# Altium footprint library Capacitor_THT.PcbLib: 378 footprints (part 17 of 24)
Each footprint in its own frame and in the unit in brackets; x right, y up, seen from the top. Pads: shape width x height; smd on the part's side, far side on the other; paste and mask are expansions set on the pad; w line width, h text height; cw(c..) or ccw(c..) is an arc to the next point about the centre after c.
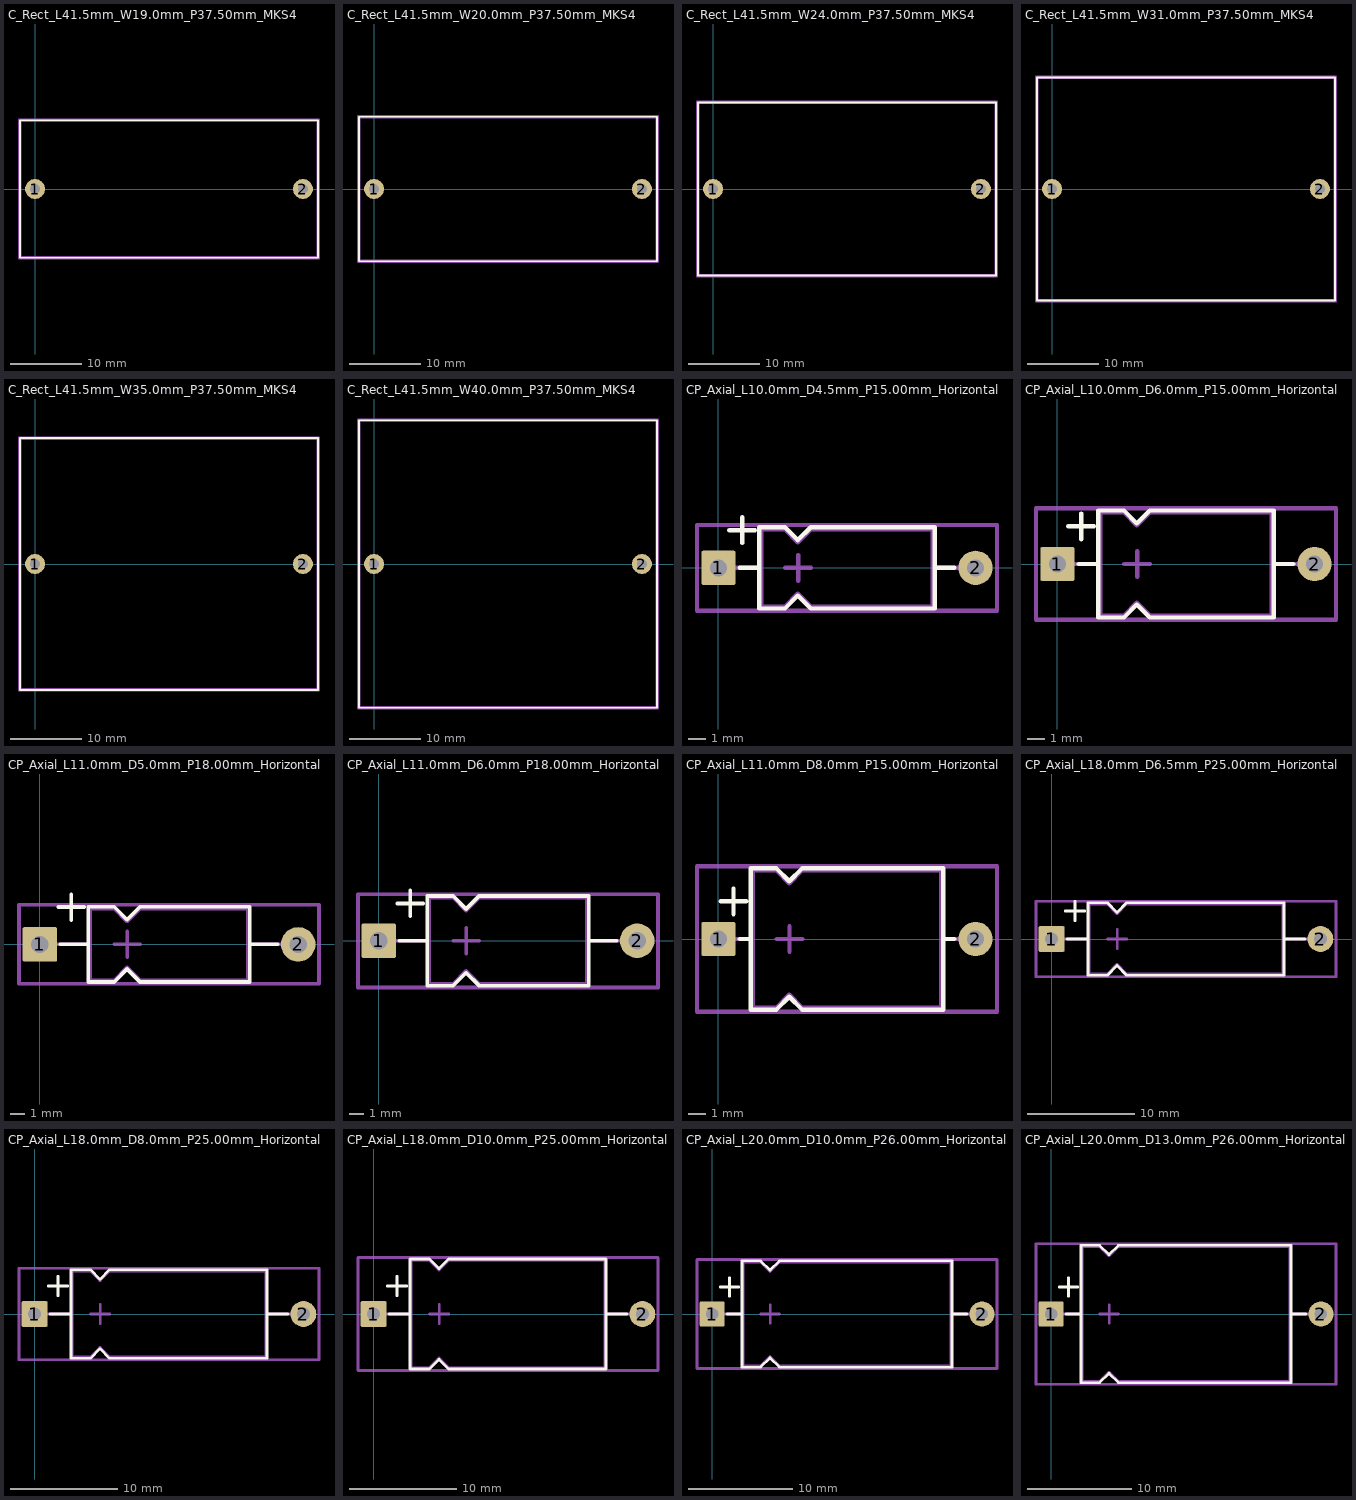
[diagram p16: the footprints below, top view; thin cyan lines are the x and y axes]

## C_Rect_L41.5mm_W19.0mm_P37.50mm_MKS4 [mm] "C_Rect_L41.5mm_W19.0mm_P37.50mm_MKS4"
pads (2):
  round 2.8 hole 1.4: 1(0,0) 2(37.5,0)
F.SilkS:
  lines w0.254: -2.12,-9.62 -2.12,9.62 39.62,9.62 39.62,-9.62 -2.12,-9.62
Top Component Center:
  lines w0.127: -0.127,0 0.127,0 ; 0,-0.127 0,0.127
Top Assembly:
  lines w0.254: -2,-9.5 -2,9.5 39.5,9.5 39.5,-9.5 -2,-9.5
Top Courtyard:
  lines w0.254: -2.25,-9.75 -2.25,9.75 39.75,9.75 39.75,-9.75 -2.25,-9.75
Top Designator:
  text ".Designator" at 13.965,-0.345 h1.52
3D body "C_Rect_L41.5mm_W19.0mm_P37.50mm_MKS4.step": height 44, standoff -1.9, extent -2,-9.5 39.5,9.5

## C_Rect_L41.5mm_W20.0mm_P37.50mm_MKS4 [mm] "C_Rect_L41.5mm_W20.0mm_P37.50mm_MKS4"
pads (2):
  round 2.8 hole 1.4: 1(0,0) 2(37.5,0)
F.SilkS:
  lines w0.254: -2.12,-10.12 -2.12,10.12 39.62,10.12 39.62,-10.12 -2.12,-10.12
Top Component Center:
  lines w0.127: -0.127,0 0.127,0 ; 0,-0.127 0,0.127
Top Assembly:
  lines w0.254: -2,-10 -2,10 39.5,10 39.5,-10 -2,-10
Top Courtyard:
  lines w0.254: -2.25,-10.25 -2.25,10.25 39.75,10.25 39.75,-10.25 -2.25,-10.25
Top Designator:
  text ".Designator" at 14.346,-0.345 h1.52
3D body "C_Rect_L41.5mm_W20.0mm_P37.50mm_MKS4.step": height 44, standoff -1.9, extent -2,-10 39.5,10

## C_Rect_L41.5mm_W24.0mm_P37.50mm_MKS4 [mm] "C_Rect_L41.5mm_W24.0mm_P37.50mm_MKS4"
pads (2):
  round 2.8 hole 1.4: 1(0,0) 2(37.5,0)
F.SilkS:
  lines w0.254: -2.12,-12.12 39.62,-12.12 39.62,12.12 -2.12,12.12 -2.12,-12.12
Top Component Center:
  lines w0.127: -0.127,0 0.127,0 ; 0,-0.127 0,0.127
Top Assembly:
  lines w0.254: -2,-12 39.5,-12 39.5,12 -2,12 -2,-12
Top Courtyard:
  lines w0.254: -2.25,-12.25 39.75,-12.25 39.75,12.25 -2.25,12.25 -2.25,-12.25
Top Designator:
  text ".Designator" at 13.584,-0.472 h1.52
3D body "C_Rect_L41.5mm_W24.0mm_P37.50mm_MKS4.step": height 44, standoff -1.9, extent -2,-12 39.5,12

## C_Rect_L41.5mm_W31.0mm_P37.50mm_MKS4 [mm] "C_Rect_L41.5mm_W31.0mm_P37.50mm_MKS4"
pads (2):
  round 2.8 hole 1.4: 1(0,0) 2(37.5,0)
F.SilkS:
  lines w0.254: -2.12,-15.62 -2.12,15.62 39.62,15.62 39.62,-15.62 -2.12,-15.62
Top Component Center:
  lines w0.127: -0.127,0 0.127,0 ; 0,-0.127 0,0.127
Top Assembly:
  lines w0.254: -2,-15.5 -2,15.5 39.5,15.5 39.5,-15.5 -2,-15.5
Top Courtyard:
  lines w0.254: -2.25,-15.75 -2.25,15.75 39.75,15.75 39.75,-15.75 -2.25,-15.75
Top Designator:
  text ".Designator" at 14.219,-0.472 h1.52
3D body "C_Rect_L41.5mm_W31.0mm_P37.50mm_MKS4.step": height 44, standoff -1.9, extent -2,-15.5 39.5,15.5

## C_Rect_L41.5mm_W35.0mm_P37.50mm_MKS4 [mm] "C_Rect_L41.5mm_W35.0mm_P37.50mm_MKS4"
pads (2):
  round 2.8 hole 1.4: 1(0,0) 2(37.5,0)
F.SilkS:
  lines w0.254: -2.12,-17.62 -2.12,17.62 39.62,17.62 39.62,-17.62 -2.12,-17.62
Top Component Center:
  lines w0.127: -0.127,0 0.127,0 ; 0,-0.127 0,0.127
Top Assembly:
  lines w0.254: -2,-17.5 -2,17.5 39.5,17.5 39.5,-17.5 -2,-17.5
Top Courtyard:
  lines w0.254: -2.25,-17.75 -2.25,17.75 39.75,17.75 39.75,-17.75 -2.25,-17.75
Top Designator:
  text ".Designator" at 13.838,-0.345 h1.52
3D body "C_Rect_L41.5mm_W35.0mm_P37.50mm_MKS4.step": height 44, standoff -1.9, extent -2,-17.5 39.5,17.5

## C_Rect_L41.5mm_W40.0mm_P37.50mm_MKS4 [mm] "C_Rect_L41.5mm_W40.0mm_P37.50mm_MKS4"
pads (2):
  round 2.8 hole 1.4: 1(0,0) 2(37.5,0)
F.SilkS:
  lines w0.254: -2.12,-20.12 39.62,-20.12 39.62,20.12 -2.12,20.12 -2.12,-20.12
Top Component Center:
  lines w0.127: -0.127,0 0.127,0 ; 0,-0.127 0,0.127
Top Assembly:
  lines w0.254: -2,-20 39.5,-20 39.5,20 -2,20 -2,-20
Top Courtyard:
  lines w0.254: -2.25,-20.25 39.75,-20.25 39.75,20.25 -2.25,20.25 -2.25,-20.25
Top Designator:
  text ".Designator" at 13.838,-0.472 h1.52
3D body "C_Rect_L41.5mm_W40.0mm_P37.50mm_MKS4.step": height 44, standoff -1.9, extent -2,-20 39.5,20

## CP_Axial_L10.0mm_D4.5mm_P15.00mm_Horizontal [mm] "CP_Axial_L10.0mm_D4.5mm_P15.00mm_Horizontal"
pads (2):
  rrect12% 2x2 hole 1: 1(0,0)
  round 2 hole 1: 2(15,0)
F.SilkS:
  lines w0.254: 0.63,2.2 2.13,2.2 ; 1.24,0 2.38,0 ; 1.38,1.45 1.38,2.95 ; 12.62,0 13.76,0 ; 2.38,-2.37 3.88,-2.37 4.63,-1.62 5.38,-2.37 12.62,-2.37 12.62,2.37 5.38,2.37 4.63,1.62 3.88,2.37 2.38,2.37 2.38,-2.37
Top Component Center:
  lines w0.127: -0.127,0 0.127,0 ; 0,-0.127 0,0.127
Top Assembly:
  lines w0.254: 0,0 2.5,0 ; 3.9,0 5.4,0 ; 4.65,-0.75 4.65,0.75 ; 12.5,0 15,0 ; 2.5,-2.25 3.88,-2.25 4.63,-1.5 5.38,-2.25 12.5,-2.25 12.5,2.25 5.38,2.25 4.63,1.5 3.88,2.25 2.5,2.25 2.5,-2.25
Top Courtyard:
  lines w0.254: -1.25,-2.5 16.25,-2.5 16.25,2.5 -1.25,2.5 -1.25,-2.5
Top Designator:
  text ".Designator" at 5.202,-0.345 h1.52
3D body "CP_Axial_L10.0mm_D4.5mm_P15.00mm_Horizontal.step": height 4.51, standoff -2, extent -0.347,-2.248 15.347,2.249

## CP_Axial_L10.0mm_D6.0mm_P15.00mm_Horizontal [mm] "CP_Axial_L10.0mm_D6.0mm_P15.00mm_Horizontal"
pads (2):
  rrect12% 2x2 hole 1: 1(0,0)
  round 2 hole 1: 2(15,0)
F.SilkS:
  lines w0.254: 0.63,2.2 2.13,2.2 ; 1.24,0 2.38,0 ; 1.38,1.45 1.38,2.95 ; 12.62,0 13.76,0 ; 2.38,-3.12 2.38,3.12 3.88,3.12 4.63,2.37 5.38,3.12 12.62,3.12 12.62,-3.12 5.38,-3.12 4.63,-2.37 3.88,-3.12 2.38,-3.12
Top Component Center:
  lines w0.127: -0.127,0 0.127,0 ; 0,-0.127 0,0.127
Top Assembly:
  lines w0.254: 0,0 2.5,0 ; 3.9,0 5.4,0 ; 4.65,-0.75 4.65,0.75 ; 12.5,0 15,0 ; 2.5,-3 2.5,3 3.88,3 4.63,2.25 5.38,3 12.5,3 12.5,-3 5.38,-3 4.63,-2.25 3.88,-3 2.5,-3
Top Courtyard:
  lines w0.254: -1.25,-3.25 -1.25,3.25 16.25,3.25 16.25,-3.25 -1.25,-3.25
Top Designator:
  text ".Designator" at 5.329,-0.472 h1.52
3D body "CP_Axial_L10.0mm_D6.0mm_P15.00mm_Horizontal.step": height 6.01, standoff -2, extent -0.347,-3 15.347,2.997

## CP_Axial_L11.0mm_D5.0mm_P18.00mm_Horizontal [mm] "CP_Axial_L11.0mm_D5.0mm_P18.00mm_Horizontal"
pads (2):
  rrect10% 2.4x2.4 hole 1.2: 1(0,0)
  round 2.4 hole 1.2: 2(18,0)
F.SilkS:
  lines w0.254: 1.28,2.6 3.08,2.6 ; 1.44,0 3.38,0 ; 2.18,1.7 2.18,3.5 ; 14.62,0 16.56,0 ; 3.38,-2.62 3.38,2.62 5.18,2.62 6.08,1.72 6.98,2.62 14.62,2.62 14.62,-2.62 6.98,-2.62 6.08,-1.72 5.18,-2.62 3.38,-2.62
Top Component Center:
  lines w0.127: -0.127,0 0.127,0 ; 0,-0.127 0,0.127
Top Assembly:
  lines w0.254: 0,0 3.5,0 ; 5.2,0 7,0 ; 6.1,-0.9 6.1,0.9 ; 14.5,0 18,0 ; 3.5,-2.5 3.5,2.5 5.18,2.5 6.08,1.6 6.98,2.5 14.5,2.5 14.5,-2.5 6.98,-2.5 6.08,-1.6 5.18,-2.5 3.5,-2.5
Top Courtyard:
  lines w0.254: -1.45,-2.75 -1.45,2.75 19.45,2.75 19.45,-2.75 -1.45,-2.75
Top Designator:
  text ".Designator" at 7.107,-0.345 h1.52
3D body "CP_Axial_L11.0mm_D5.0mm_P18.00mm_Horizontal.step": height 5.01, standoff -2, extent -0.447,-2.5 18.447,2.5

## CP_Axial_L11.0mm_D6.0mm_P18.00mm_Horizontal [mm] "CP_Axial_L11.0mm_D6.0mm_P18.00mm_Horizontal"
pads (2):
  rrect10% 2.4x2.4 hole 1.2: 1(0,0)
  round 2.4 hole 1.2: 2(18,0)
F.SilkS:
  lines w0.254: 1.28,2.6 3.08,2.6 ; 1.44,0 3.38,0 ; 2.18,1.7 2.18,3.5 ; 14.62,0 16.56,0 ; 3.38,-3.12 3.38,3.12 5.18,3.12 6.08,2.22 6.98,3.12 14.62,3.12 14.62,-3.12 6.98,-3.12 6.08,-2.22 5.18,-3.12 3.38,-3.12
Top Component Center:
  lines w0.127: -0.127,0 0.127,0 ; 0,-0.127 0,0.127
Top Assembly:
  lines w0.254: 0,0 3.5,0 ; 5.2,0 7,0 ; 6.1,-0.9 6.1,0.9 ; 14.5,0 18,0 ; 3.5,-3 3.5,3 5.18,3 6.08,2.1 6.98,3 14.5,3 14.5,-3 6.98,-3 6.08,-2.1 5.18,-3 3.5,-3
Top Courtyard:
  lines w0.254: -1.45,-3.25 -1.45,3.25 19.45,3.25 19.45,-3.25 -1.45,-3.25
Top Designator:
  text ".Designator" at 6.853,-0.345 h1.52
3D body "CP_Axial_L11.0mm_D6.0mm_P18.00mm_Horizontal.step": height 6.01, standoff -2, extent -0.447,-3 18.447,2.997

## CP_Axial_L11.0mm_D8.0mm_P15.00mm_Horizontal [mm] "CP_Axial_L11.0mm_D8.0mm_P15.00mm_Horizontal"
pads (2):
  rrect12% 2x2 hole 1: 1(0,0)
  round 2 hole 1: 2(15,0)
F.SilkS:
  lines w0.254: 0.13,2.2 1.63,2.2 ; 0.88,1.45 0.88,2.95 ; 1.24,0 1.88,0 ; 13.12,0 13.76,0 ; 1.88,-4.12 3.38,-4.12 4.13,-3.37 4.88,-4.12 13.12,-4.12 13.12,4.12 4.88,4.12 4.13,3.37 3.38,4.12 1.88,4.12 1.88,-4.12
Top Component Center:
  lines w0.127: -0.127,0 0.127,0 ; 0,-0.127 0,0.127
Top Assembly:
  lines w0.254: 0,0 2,0 ; 3.4,0 4.9,0 ; 4.15,-0.75 4.15,0.75 ; 13,0 15,0 ; 2,-4 3.38,-4 4.13,-3.25 4.88,-4 13,-4 13,4 4.88,4 4.13,3.25 3.38,4 2,4 2,-4
Top Courtyard:
  lines w0.254: -1.25,-4.25 16.25,-4.25 16.25,4.25 -1.25,4.25 -1.25,-4.25
Top Designator:
  text ".Designator" at 4.821,-0.345 h1.52
3D body "CP_Axial_L11.0mm_D8.0mm_P15.00mm_Horizontal.step": height 8.01, standoff -2, extent -0.347,-3.996 15.347,3.999

## CP_Axial_L18.0mm_D6.5mm_P25.00mm_Horizontal [mm] "CP_Axial_L18.0mm_D6.5mm_P25.00mm_Horizontal"
pads (2):
  rrect10% 2.4x2.4 hole 1.2: 1(0,0)
  round 2.4 hole 1.2: 2(25,0)
F.SilkS:
  lines w0.254: 1.28,2.6 3.08,2.6 ; 1.44,0 3.38,0 ; 2.18,1.7 2.18,3.5 ; 21.62,0 23.56,0 ; 3.38,-3.37 3.38,3.37 5.18,3.37 6.08,2.47 6.98,3.37 21.62,3.37 21.62,-3.37 6.98,-3.37 6.08,-2.47 5.18,-3.37 3.38,-3.37
Top Component Center:
  lines w0.127: -0.127,0 0.127,0 ; 0,-0.127 0,0.127
Top Assembly:
  lines w0.254: 0,0 3.5,0 ; 5.2,0 7,0 ; 6.1,-0.9 6.1,0.9 ; 21.5,0 25,0 ; 3.5,-3.25 3.5,3.25 5.18,3.25 6.08,2.35 6.98,3.25 21.5,3.25 21.5,-3.25 6.98,-3.25 6.08,-2.35 5.18,-3.25 3.5,-3.25
Top Courtyard:
  lines w0.254: -1.45,-3.5 -1.45,3.5 26.45,3.5 26.45,-3.5 -1.45,-3.5
Top Designator:
  text ".Designator" at 8.631,-0.472 h1.52
3D body "CP_Axial_L18.0mm_D6.5mm_P25.00mm_Horizontal.step": height 6.51, standoff -2, extent -0.447,-3.243 25.447,3.25

## CP_Axial_L18.0mm_D8.0mm_P25.00mm_Horizontal [mm] "CP_Axial_L18.0mm_D8.0mm_P25.00mm_Horizontal"
pads (2):
  rrect10% 2.4x2.4 hole 1.2: 1(0,0)
  round 2.4 hole 1.2: 2(25,0)
F.SilkS:
  lines w0.254: 1.28,2.6 3.08,2.6 ; 1.44,0 3.38,0 ; 2.18,1.7 2.18,3.5 ; 21.62,0 23.56,0 ; 3.38,-4.12 3.38,4.12 5.18,4.12 6.08,3.22 6.98,4.12 21.62,4.12 21.62,-4.12 6.98,-4.12 6.08,-3.22 5.18,-4.12 3.38,-4.12
Top Component Center:
  lines w0.127: -0.127,0 0.127,0 ; 0,-0.127 0,0.127
Top Assembly:
  lines w0.254: 0,0 3.5,0 ; 5.2,0 7,0 ; 6.1,-0.9 6.1,0.9 ; 21.5,0 25,0 ; 3.5,-4 3.5,4 5.18,4 6.08,3.1 6.98,4 21.5,4 21.5,-4 6.98,-4 6.08,-3.1 5.18,-4 3.5,-4
Top Courtyard:
  lines w0.254: -1.45,-4.25 -1.45,4.25 26.45,4.25 26.45,-4.25 -1.45,-4.25
Top Designator:
  text ".Designator" at 9.393,-0.345 h1.52
3D body "CP_Axial_L18.0mm_D8.0mm_P25.00mm_Horizontal.step": height 8.01, standoff -2, extent -0.447,-3.997 25.447,3.996

## CP_Axial_L18.0mm_D10.0mm_P25.00mm_Horizontal [mm] "CP_Axial_L18.0mm_D10.0mm_P25.00mm_Horizontal"
pads (2):
  rrect10% 2.4x2.4 hole 1.2: 1(0,0)
  round 2.4 hole 1.2: 2(25,0)
F.SilkS:
  lines w0.254: 1.28,2.6 3.08,2.6 ; 1.44,0 3.38,0 ; 2.18,1.7 2.18,3.5 ; 21.62,0 23.56,0 ; 3.38,-5.12 5.18,-5.12 6.08,-4.22 6.98,-5.12 21.62,-5.12 21.62,5.12 6.98,5.12 6.08,4.22 5.18,5.12 3.38,5.12 3.38,-5.12
Top Component Center:
  lines w0.127: -0.127,0 0.127,0 ; 0,-0.127 0,0.127
Top Assembly:
  lines w0.254: 0,0 3.5,0 ; 5.2,0 7,0 ; 6.1,-0.9 6.1,0.9 ; 21.5,0 25,0 ; 3.5,-5 5.18,-5 6.08,-4.1 6.98,-5 21.5,-5 21.5,5 6.98,5 6.08,4.1 5.18,5 3.5,5 3.5,-5
Top Courtyard:
  lines w0.254: -1.45,-5.25 26.45,-5.25 26.45,5.25 -1.45,5.25 -1.45,-5.25
Top Designator:
  text ".Designator" at 9.266,-0.345 h1.52
3D body "CP_Axial_L18.0mm_D10.0mm_P25.00mm_Horizontal.step": height 10.01, standoff -2, extent -0.447,-4.994 25.447,4.995

## CP_Axial_L20.0mm_D10.0mm_P26.00mm_Horizontal [mm] "CP_Axial_L20.0mm_D10.0mm_P26.00mm_Horizontal"
pads (2):
  rrect10% 2.4x2.4 hole 1.2: 1(0,0)
  round 2.4 hole 1.2: 2(26,0)
F.SilkS:
  lines w0.254: 0.78,2.6 2.58,2.6 ; 1.44,0 2.88,0 ; 1.68,1.7 1.68,3.5 ; 23.12,0 24.56,0 ; 2.88,-5.12 2.88,5.12 4.68,5.12 5.58,4.22 6.48,5.12 23.12,5.12 23.12,-5.12 6.48,-5.12 5.58,-4.22 4.68,-5.12 2.88,-5.12
Top Component Center:
  lines w0.127: -0.127,0 0.127,0 ; 0,-0.127 0,0.127
Top Assembly:
  lines w0.254: 0,0 3,0 ; 4.7,0 6.5,0 ; 5.6,-0.9 5.6,0.9 ; 23,0 26,0 ; 3,-5 3,5 4.68,5 5.58,4.1 6.48,5 23,5 23,-5 6.48,-5 5.58,-4.1 4.68,-5 3,-5
Top Courtyard:
  lines w0.254: -1.45,-5.25 -1.45,5.25 27.45,5.25 27.45,-5.25 -1.45,-5.25
Top Designator:
  text ".Designator" at 9.012,-0.345 h1.52
3D body "CP_Axial_L20.0mm_D10.0mm_P26.00mm_Horizontal.step": height 10.01, standoff -2, extent -0.447,-5 26.447,4.999

## CP_Axial_L20.0mm_D13.0mm_P26.00mm_Horizontal [mm] "CP_Axial_L20.0mm_D13.0mm_P26.00mm_Horizontal"
pads (2):
  rrect10% 2.4x2.4 hole 1.2: 1(0,0)
  round 2.4 hole 1.2: 2(26,0)
F.SilkS:
  lines w0.254: 0.78,2.6 2.58,2.6 ; 1.44,0 2.88,0 ; 1.68,1.7 1.68,3.5 ; 23.12,0 24.56,0 ; 2.88,-6.62 2.88,6.62 4.68,6.62 5.58,5.72 6.48,6.62 23.12,6.62 23.12,-6.62 6.48,-6.62 5.58,-5.72 4.68,-6.62 2.88,-6.62
Top Component Center:
  lines w0.127: -0.127,0 0.127,0 ; 0,-0.127 0,0.127
Top Assembly:
  lines w0.254: 0,0 3,0 ; 4.7,0 6.5,0 ; 5.6,-0.9 5.6,0.9 ; 23,0 26,0 ; 3,-6.5 3,6.5 4.68,6.5 5.58,5.6 6.48,6.5 23,6.5 23,-6.5 6.48,-6.5 5.58,-5.6 4.68,-6.5 3,-6.5
Top Courtyard:
  lines w0.254: -1.45,-6.75 -1.45,6.75 27.45,6.75 27.45,-6.75 -1.45,-6.75
Top Designator:
  text ".Designator" at 9.647,-0.472 h1.52
3D body "CP_Axial_L20.0mm_D13.0mm_P26.00mm_Horizontal.step": height 13.01, standoff -2, extent -0.447,-6.5 26.447,6.498